# EAGLE library part MAX30102EFD+ (library MAX30102EFD+)
MAXIM INTEGRATED PRODUCTS - MAX30102EFD+ - PULSE OXIMETER/HEART RATE SENSOR, OESIP Source: Datasheet <https://datasheets.maximintegrated.com/en/ds/MAX30102.pdf>
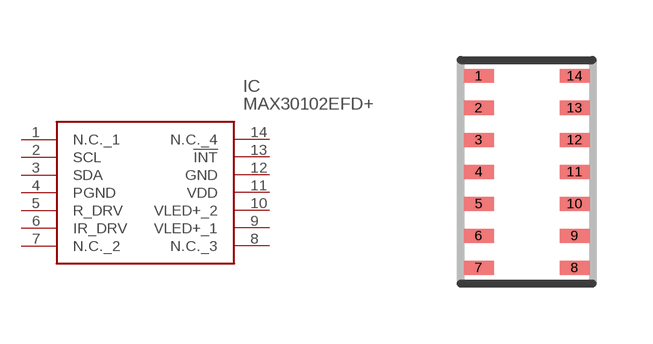
[diagram p0: symbol with the pads of 14-LEAD-OESIP; footprint 14-LEAD-OESIP]

Designator prefix IC

## MAX30102EFD+ (Description: MAXIM INTEGRATED PRODUCTS - MAX30102EFD+ - PULSE OXIMETER/HEART RATE SENSOR, OESIP; Height: mm; Manufacturer_Name: Analog Devices; Manufacturer_Part_Number: MAX30102EFD+; Mouser_Part_Number: 700-MAX30102EFD+; Mouser_Price-Stock: https://www.mouser.co.uk/ProductDetail/Analog-Devices-Maxim-Integrated/MAX30102EFD%2b?qs=nVS1qgv%252BQrk9UYEvS27V%2Fg%3D%3D)  [14-LEAD-OESIP]
1  N.C._1
2  SCL
3  SDA
4  PGND
5  R_DRV
6  IR_DRV
7  N.C._2
8  N.C._3
9  VLED+_1
10  VLED+_2
11  VDD
12  GND
13  !INT
14  N.C._4

## Footprint 14-LEAD-OESIP (pad centres in mm)
14-Lead-OESIP
smd 0.75 x 0.35: 1 -1.2,2.4; 2 -1.2,1.6; 3 -1.2,0.8; 4 -1.2,0; 5 -1.2,-0.8; 6 -1.2,-1.6; 7 -1.2,-2.4; 8 1.2,-2.4; 9 1.2,-1.6; 10 1.2,-0.8; 11 1.2,0; 12 1.2,0.8; 13 1.2,1.6; 14 1.2,2.4